# Altium integrated library WiFi_3200.IntLib: 17 symbols
Pins are listed as number, name and electrical type; pins without a type are passive.

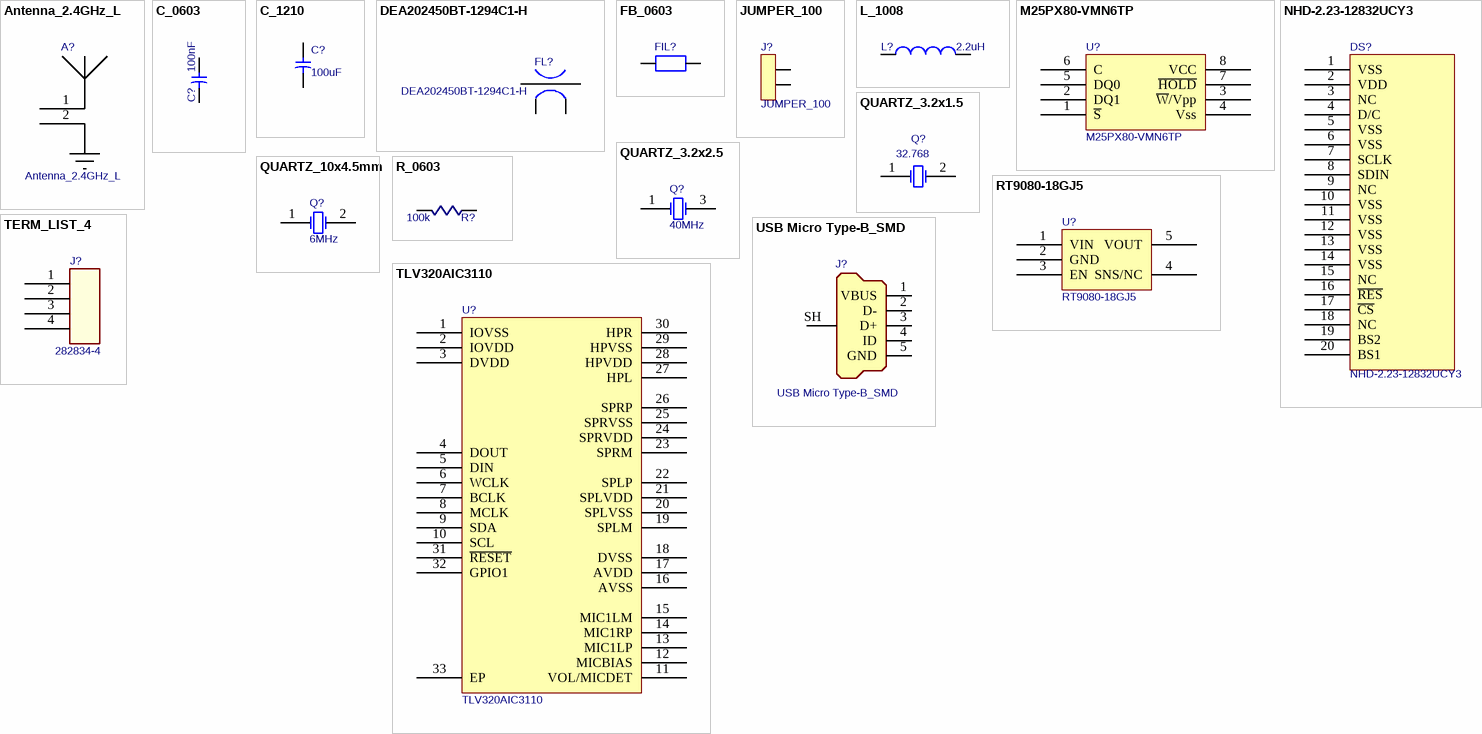
[diagram p0: symbols Antenna_2.4GHz_L to USB Micro Type-B_SMD]

## Antenna_2.4GHz_L
designator A?  (net tie, no BOM)
footprint Antenna_2.45GHz_IFA1_L
footprint Antenna_2.45GHz_MIFA1_L
footprint Antenna_2.45GHz_MIFA_L
pins: 1, 2

## C_0603
designator C?, comment 100nF
PackageReference: C_0603; VALUE: 100nF
simulation model Model Name (Model Description)
signal-integrity model Model Name (Model Description)
footprint C_0603A
footprint C_0603B
pins: 1, 2

## C_1210
designator C?, comment 100uF
PackageReference: C_1210; VALUE: 100uF
simulation model Model Name (Model Description)
signal-integrity model Model Name (Model Description)
footprint C_1210A
footprint C_1210B
footprint C_1210C
footprint C_1210D
pins: 1, 2

## DEA202450BT-1294C1-H
designator FL?
2.45 GHz filter; Manufacturer: TDK Corporation; Filter Type: Band Pass; Bandwidth: 72MHz; Insertion Loss: 1.35dB; Frequency: 2.45GHz Center; Part Status: Active; Size / Dimension: 0.079" L x 0.053" W (2.00mm x 1.35mm); Supplier Part Number 1: 445-172335-1-ND; Mounting Type: Surface Mount; Package / Case: 0805 (2012 Metric); Supplier 1: Digi-Key; Category: Filters; Manufacturer Part Number: DEA202450BT-1294C1-H; Height (Max): 0.032" (0.80mm); Packaging: Cut Tape (CT); Ripple: -; RoHS: RoHS Compliant
footprint DEA202450BT-1294C1-H (2.45 GHz filter)
pins: 1, 2, 3, 4

## FB_0603
designator FIL?, comment FB  (value not drawn)
Manufacturer Part Number: MPZ1608S221ATA00; Manufacturer: TDK Corporation; Current Rating: 2.2A; Impedance: 220 Ohm; DC Resistance (DCR) (Max): 50 mOhm; Filter Type: Power Line; Number of Lines: 1; Impedance @ Frequency: 220 Ohm @ 100MHz; Ratings: -; Package / Case: 0603 (1608 Metric); Part Status: Active; Current Rating (Max): 2.2A; Packaging: Cut Tape (CT); Operating Temperature: -55°C ~ 125°C; Mounting Type: Surface Mount; Height (Max): 0.037" (0.95mm); Size / Dimension: 0.063" L x 0.031" W (1.60mm x 0.80mm); RoHS: RoHS Compliant; Supplier 1: Digi-Key; Category: Filters; ComponentLink1URL: https://product.tdk.com/info/en/catalog/datasheets/beads_commercial_power_mpz1608_en.pdf; ComponentLink1Description: https://product.tdk.com/info/en/catalog/datasheets/beads_commercial_power_mpz1608_en.pdf; Supplier Part Number 1: 445-1565-1-ND
footprint FB_0603
pins: 1, 2

## JUMPER_100
designator J?
Jumper 2.54 mm
footprint JUMPER100
footprint JUMPER100
pins: 1, 2

## L_1008
designator L?, comment 2.2uH
Manufacturer Part Number: LQM2HPN2R2MG0L; Manufacturer: Murata Electronics North America; Inductance: 2.2µH; Shielding: Shielded; Frequency - Self Resonant: 40MHz; Type: Multilayer; Frequency - Test: 1MHz; Tolerance: ±20%; Material - Core: Ferrite; Current Rating: 1.3A; DC Resistance (DCR): 100 mOhm Max; RoHS: RoHS Compliant; ComponentLink1URL: http://www.farnell.com/datasheets/1888687.pdf; ComponentLink1Description: http://www.farnell.com/datasheets/1888687.pdf; Supplier Part Number 1: 490-5114-1-ND; Category: Inductors, Coils, Chokes; Height - Seated (Max): 0.039" (1.00mm); Q @ Freq: -; Package / Case: 1008 (2520 Metric); Packaging: Cut Tape (CT); Supplier 1: Digi-Key; Operating Temperature: -55°C ~ 125°C; Current - Saturation: -; Part Status: Active; Ratings: -; Mounting Type: Surface Mount; Size / Dimension: 0.098" L x 0.079" W (2.50mm x 2.00mm); ComponentLink2URL: http://search.murata.co.jp/Ceramy/image/img/PDF/ENG/L0075S0104LQM2HP_G0.pdf; ComponentLink2Description: http://search.murata.co.jp/Ceramy/image/img/PDF/ENG/L0075S0104LQM2HP_G0.pdf
footprint L_1008 (Footprint not found)
pins: 1, 2

## M25PX80-VMN6TP
designator U?
Serial Flash; Manufacturer: Micron Technology Inc.; Manufacturer Part Number: M25PX80-VMN6TP TR; Speed: 75MHz; Voltage - Supply: 2.3 V ~ 3.6 V; Memory Size: 8M (1M x 8); Memory Type: FLASH - NOR; Interface: SPI Serial; Category: Integrated Circuits (ICs); Part Status: Active; Operating Temperature: -40°C ~ 85°C (TA); Package / Case: 8-SOIC (0.154", 3.90mm Width); Supplier Device Package: 8-SO; Packaging: Cut Tape (CT); Format - Memory: FLASH; Supplier 1: Digi-Key; RoHS: RoHS Compliant; ComponentLink1URL: http://www.micron.com/~/media/Documents/Products/Data%20Sheet/NOR%20Flash/Serial%20NOR/M25PX/M25PX_80.pdf; ComponentLink1Description: http://www.micron.com/~/media/Documents/Products/Data%20Sheet/NOR%20Flash/Serial%20NOR/M25PX/M25PX_80.pdf; Supplier Part Number 1: M25PX80-VMN6TP CT-ND
footprint SOG.050/8/WG.244/L.175
pins: 1 ~{S}, 2 DQ1, 3 ~{W}/Vpp, 4 Vss, 5 DQ0, 6 C, 7 ~{HOLD}, 8 VCC

## NHD-2.23-12832UCY3
designator DS?
OLED DISPLAY; Manufacturer: Newhaven Display Intl; Background Color: Black; Graphics Color: Yellow; Dot Size: 0.41mm W x 0.39mm H; Diagonal Screen Size: 2.23" (56.64mm); Display Type: OLED - Passive Matrix; Viewing Area: 60.00mm W x 18.00mm H; Backlight: Without Backlight; Dot Pixels: 128 x 32; Interface: I²C, Parallel 8-Bit, SPI; Dot Pitch: 0.43mm W x 0.41mm H; Part Status: Active; Supplier 1: Digi-Key; Display Mode: -; Category: Optoelectronics; Manufacturer Part Number: NHD-2.23-12832UCY3; Touchscreen: -; RoHS: RoHS Compliant; ComponentLink1URL: http://www.newhavendisplay.com/specs/NHD-2.23-12832UCY3.pdf; ComponentLink1Description: http://www.newhavendisplay.com/specs/NHD-2.23-12832UCY3.pdf; Supplier Part Number 1: NHD-2.23-12832UCY3-ND
footprint NHD-2.23-12832UCY3_FP (OLED Display)
pins: 1 VSS, 2 VDD, 3 NC, 4 D/C, 5 VSS, 6 VSS, 7 SCLK, 8 SDIN, 9 NC, 10 VSS, 11 VSS, 12 VSS, 13 VSS, 14 VSS, 15 NC, 16 ~{RES}, 17 ~{CS}, 18 NC, 19 BS2, 20 BS1

## QUARTZ_3.2x1.5
designator Q?, comment 32.768
Manufacturer Part Number: Q13FC13500003 FC-135 32.768KHZ 9.0PF; Manufacturer: EPSON; Frequency Tolerance + / -: 20; Product Range: FC-135 Series; Load Capacitance: 9; Crystal Case: SMD, 3.2mm x 1.5; Supplier 1: Farnell; Frequency Stability + / -: -; Operating Temperature Max: 85; Packaging: Cut Tape<!--FANDB--><div class="features-and-benefits-container"></div>; RoHS: YES; Frequency Nom: 32.768; Operating Temperature Min: -40; Supplier Part Number 1: 1278037; ComponentLink1Description: http://www.farnell.com/datasheets/1678503.pdf; ComponentLink1URL: http://www.farnell.com/datasheets/1678503.pdf
footprint Q_FC135
pins: 1 X1, 2 X2

## QUARTZ_3.2x2.5
designator Q?, comment 40MHz
Manufacturer Part Number: Q24FA20H00396  FA-20H 40MHZ 8PF; Manufacturer: EPSON; Load Capacitance: 8; Frequency Nom: 40; Crystal Case: SMD, 2.5mm x 2; Supplier Part Number 1: 2471840; Supplier 1: Farnell; ComponentLink1URL: http://www.farnell.com/datasheets/1897374.pdf; ComponentLink1Description: http://www.farnell.com/datasheets/1897374.pdf
footprint QUARTZ_3.2x2.5
footprint SM/25X20/CMOS_CLK_4
pins: 1 X1, 2 GND hidden to GND, 3 X2, 4 GND hidden to GND

## QUARTZ_10x4.5mm
designator Q?, comment 6MHz
Manufacturer Part Number: FQ1045A-6.000; Manufacturer: Fox Electronics; Frequency Tolerance + / -: 20; Product Range: FC-135 Series; Frequency Nom: 32.768; Load Capacitance: 20pF; Crystal Case: SMD, 3.2mm x 1.5; Type: MHz Crystal; Frequency Stability: ±30ppm; ESR (Equivalent Series Resistance): 150 Ohm; Operating Mode: Fundamental; Supplier 1: Digi-Key; Frequency Stability + / -: -; Operating Temperature Max: 85; Packaging: Cut Tape (CT); RoHS: RoHS Compliant; Operating Temperature Min: -40; Supplier Part Number 1: 631-1035-1-ND; ComponentLink1Description: http://www.farnell.com/datasheets/1678503.pdf; ComponentLink1URL: http://www.farnell.com/datasheets/1678503.pdf; Category: Crystals and Oscillators; Part Status: Active; Frequency: 6MHz; Frequency Tolerance: ±30ppm; Operating Temperature: 0°C ~ 70°C; Ratings: -; Mounting Type: Surface Mount; Package / Case: 2-SMD; Size / Dimension: 0.394" L x 0.177" W (10.00mm x 4.50mm); Height: 0.067" (1.70mm); ComponentLink2URL: http://foxonline.com/pdfs/fq1045a.pdf; ComponentLink2Description: http://foxonline.com/pdfs/fq1045a.pdf
footprint QUARTZ_10x4.5
pins: 1 X1, 2 X2

## R_0603
designator R?, comment 100k
PackageReference: R_0603; VALUE: 100k
signal-integrity model Model Name (Model Description)
simulation model Model Name (Model Description)
footprint R_0603
pins: 1, 2

## RT9080-18GJ5
designator U?
LDO 1.8V, 600mA; Manufacturer: Richtek USA Inc.; Regulator Topology: Positive Fixed; Voltage - Input: Up to 5.5V; Voltage - Dropout (Typical): 0.57V @ 600mA; Number of Regulators: 1; Current - Limit (Min): 610mA; RoHS: RoHS Compliant; Package / Case: SOT-23-5 Thin, TSOT-23-5; Supplier 1: Digi-Key; Category: Integrated Circuits (ICs); Operating Temperature: -40°C ~ 85°C; Packaging: Cut Tape (CT); Part Status: Active; Current - Output: 600mA; Voltage - Output: 1.8V; Manufacturer Part Number: RT9080-18GJ5; Mounting Type: Surface Mount; Supplier Device Package: TSOT-23-5; ComponentLink1URL: http://www.richtek.com/assets/product_file/RT9080/DS9080-00.pdf; ComponentLink1Description: http://www.richtek.com/assets/product_file/RT9080/DS9080-00.pdf; Supplier Part Number 1: RT9080-18GJ5CT-ND
footprint SOT95P275X100-5N (SOT23, 5-Leads, Body 2,80x2,75mm, Pitch 0,95mm, IPC Medium Density)
pins: 1 VIN, 2 GND, 3 EN, 4 SNS/NC, 5 VOUT

## TERM_LIST_4
designator J?, comment 282834-4
Manufacturer: TE CONNECTIVITY / BUCHANAN; Wire Size AWG Min: 30; Rated Voltage: 150; No. of Positions: 4; Connector Type: Terminal Block, Eurostyle; Conductor Area CSA: 1.4; Connector Mounting: PCB Mount; Wire Size AWG Max: 16; Wire Connection Method: Screw; Rated Current: 10; Block Orientation: Through Hole Right Angle; Pitch Spacing: 2.54; Supplier 1: Farnell; Contact Material: Brass; Contact Plating: Tin Plated Contacts<!--FANDB--><div class="features-and-benefits-container"><div class="features-and-benefits-description"><span class="features-benefits-value">The 282834-4 is a 4-position 1-row green through-hole right-angle Terminal Block with tin-plated brass contacts and polyamide 6.6 housing. The BUCHANAN terminal block with special rising cage clamp design allows numerous reliable connections and disconnections at field installations. The housing funnel entry design enables an easier product application.</span></div><div class="features-and-benefits-list"><ul class="features-and-benefits-list-list"><li class="features-and-benefits-list-item">IR Reflow compatible</li><li class="features-and-benefits-list-item">-40 to +105; Manufacturer Part Number: 282834-4; Product Range: -; RoHS: YES; ComponentLink1URL: http://www.farnell.com/cad/1605505.pdf; ComponentLink1Description: http://www.farnell.com/cad/1605505.pdf; ComponentLink2URL: http://www.farnell.com/datasheets/1650926.pdf; ComponentLink2Description: http://www.farnell.com/datasheets/1650926.pdf; ComponentLink3URL: http://www.farnell.com/datasheets/504548.pdf; ComponentLink3Description: http://www.farnell.com/datasheets/504548.pdf; Supplier Part Number 1: 2396253
footprint HEADER_2.54_SCREW_4PIN
pins: 1, 2, 3, 4

## TLV320AIC3110
designator U?
Manufacturer: Texas Instruments; Manufacturer Part Number: TLV320AIC3110IRHBR; Sigma Delta: Yes; Voltage - Supply, Digital: 1.65 V ~ 1.95 V; Data Interface: I²C, Serial; Voltage - Supply, Analog: 2.7 V ~ 3.6 V; Number of ADCs / DACs: 1 / 2; S/N Ratio, ADCs / DACs (db) Typ: 91 / 95; Resolution (Bits): 32 b; Mounting Type: Surface Mount; Category: Integrated Circuits (ICs); RoHS: RoHS Compliant; Type: Audio; Part Status: Active; Dynamic Range, ADCs / DACs (db) Typ: -; Package / Case: 32-VFQFN Exposed Pad; Supplier Device Package: 32-VQFN (5x5); Packaging: Cut Tape (CT); Supplier 1: Digi-Key; Operating Temperature: -40°C ~ 85°C; ComponentLink1URL: http://www.ti.com/lit/ds/symlink/tlv320aic3110.pdf; ComponentLink1Description: http://www.ti.com/lit/ds/symlink/tlv320aic3110.pdf; Supplier Part Number 1: 296-25584-1-ND
footprint QFN50P500X500X80-32N (QFN, 32-Leads, Body 5.1x5.1mm (max), Pitch 0.50mm, IPC Medium Density)
pins: 1 IOVSS, 2 IOVDD, 3 DVDD, 4 DOUT, 5 DIN, 6 WCLK, 7 BCLK, 8 MCLK, 9 SDA, 10 SCL, 11 VOL/MICDET, 12 MICBIAS, 13 MIC1LP, 14 MIC1RP, 15 MIC1LM, 16 AVSS, 17 AVDD, 18 DVSS, 19 SPLM, 20 SPLVSS, 21 SPLVDD, 22 SPLP, 23 SPRM, 24 SPRVDD, 25 SPRVSS, 26 SPRP, 27 HPL, 28 HPVDD, 29 HPVSS, 30 HPR, 31 ~{RESET}, 32 GPIO1, 33 EP

## USB Micro Type-B_SMD
designator J?
USB Micro Type-B; Manufacturer: Amphenol FCI; Manufacturer Part Number: 10118192-0001LF; Gender: Receptacle; Number of Contacts: 5; Connector Type: USB - micro B; Specifications: USB 2.0; Supplier 1: Digi-Key; URL: http://www.te.com/commerce/DocumentDelivery/DDEController?Action=srchrtrv&DocNm=2174507&DocType=Customer+Drawing&DocLang=JP; Category: Connectors, Interconnects; Packaging: Cut Tape (CT); Part Status: Active; RoHS: RoHS Compliant; Mounting Type: Surface Mount, Right Angle, Horizontal; Ingress Protection: -; Features: Flange, Shielded; ComponentLink1URL: http://portal.fciconnect.com/Comergent//fci/drawing/10118192.pdf; ComponentLink1Description: http://portal.fciconnect.com/Comergent//fci/drawing/10118192.pdf; Supplier Part Number 1: 609-4613-1-ND
footprint MICRO USB TYPE-B_SMD (10118192-0001LF)
pins: 1 VBUS, 2 D-, 3 D+, 4 ID, 5 GND, SH Shell